# Altium integrated library WE-SUKW_rev15a.intlib: 2 symbols
Pins are listed as number, name and electrical type; pins without a type are passive.

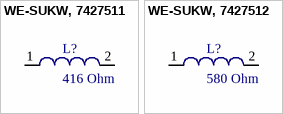
[diagram p0: symbols WE-SUKW, 7427511 to WE-SUKW, 7427512]

## WE-SUKW, 7427511
designator L?, comment 416 Ohm
EMI Suppression 5-Hole Ferrite Bead WE-SUKW, Z= 416 Ohm; partNo: 7427511; Manufacturer: Würth Elektronik eiSos GmbH; Impedance: 416 Ohm; ComponentLink1Description: Manufacturer; ComponentLink1URL: http://www.we-online.de; Created by: Christin Zierenner; Created Date: May 2009; ComponentLink2Description: Datasheet; ComponentLink2URL: http://www.we-online.de/katalog/media/pdf/7427511.pdf
footprint WE-SUKW, 7427511 (Inductor, 2-Leads, Body 5,5x5,0mm)
pins: 1, 2

## WE-SUKW, 7427512
designator L?, comment 580 Ohm
EMI Suppression 5-Hole Ferrite Bead WE-SUKW, Z= 580 Ohm; partNo: 7427512; Manufacturer: Würth Elektronik eiSos GmbH; Impedance: 580 Ohm; ComponentLink1Description: Manufacturer; ComponentLink1URL: http://www.we-online.de; Created by: Christin Zierenner; Created Date: May 2009; ComponentLink2Description: Datasheet; ComponentLink2URL: http://www.we-online.de/katalog/media/pdf/7427512.pdf
footprint WE-SUKW, 7427512 (Inductor, 2-Leads, Body 8,5x4,65mm)
pins: 1, 2